# Altium schematic symbol library 光控开关电路设计.SCHLIB: 13 symbols
Pins are listed as number, name and electrical type; pins without a type are passive.

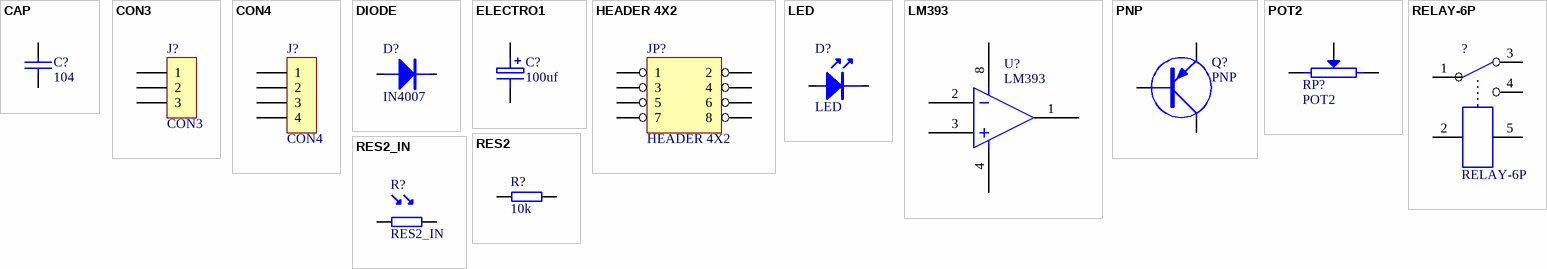
[diagram p0: symbols CAP to RES2_IN]

## CAP
designator C?, comment 104
Capacitor
footprint RAD0.1
footprint RAD0.2
footprint R/C0805
footprint R/C1206
footprint R/C0805
pins: 1, 2

## CON3
designator J?
Connector
footprint SIP3
footprint 5.08-S301
pins: 1, 2, 3

## CON4
designator J?
Connector
footprint SIP4
pins: 1, 2, 3, 4

## DIODE
designator D?, comment IN4007
footprint DIODE0.4
footprint DIODE0.3
footprint DIODE0.2
footprint D190
footprint D1206
pins: A, K

## ELECTRO1
designator C?, comment 100uf
Electrolytic Capacitor
footprint RB.1/.2
footprint RB.2/.4
pins: 1, 2

## HEADER 4X2
designator JP?
footprint IDC8
pins: 1, 2, 3, 4, 5, 6, 7, 8

## LED
designator D?
footprint LED
footprint D0805
pins: A, K

## LM393
designator U?
footprint DIP8
pins: 1, 2 -, 3 +, 4 GND (power), 8 VCC (power)

## PNP
designator Q?
footprint TO-92C
pins: B, C, E

## POT2
designator RP?
Potentiometer
footprint VR9
footprint VR7
footprint RV09
footprint VR1
pins: 1, 2, 3

## RELAY-6P
designator ?
footprint JD3
pins: 1, 2, 3, 4, 5, 6

## RES2
designator R?, comment 10k
footprint AXIAL0.3
footprint AXIAL0.4
footprint AXIAL0.1
footprint AXIAL1.0
footprint R/C0805
footprint R/C0805
pins: 1, 2

## RES2_IN
designator R?
footprint AXIAL0.1
pins: 1, 2